# EAGLE library part ISL97516 (library IC)
600kHz/1.2MHz PWM Step-Up Regulator http://www.intersil.com/data/fn/fn9261.pdf
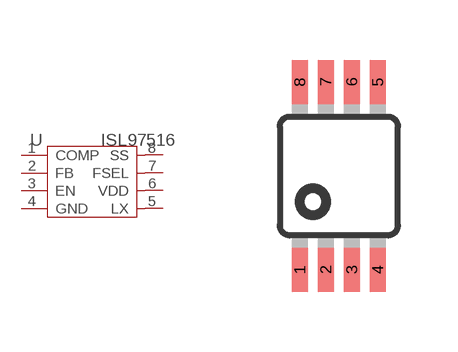
[diagram p31: symbol with the pads of MSOP8; footprint MSOP8]

Designator prefix U

## ISL97516-MSOP8  [MSOP8]
1  COMP
2  FB  in
3  EN  in
4  GND  sup
5  LX  out
6  VDD  sup
7  FSEL
8  SS

## Footprint MSOP8 (pad centres in mm)
8M, 8-Lead, 0.118" Wide, Miniature Small Outline Package MSOP 8M-Package doc1097.pdf
smd 0.4 x 1.1: 1 -0.975,-2.35; 2 -0.325,-2.35; 3 0.325,-2.35; 4 0.975,-2.35; 5 0.975,2.35; 6 0.325,2.35; 7 -0.325,2.35; 8 -0.975,2.35